# Altium schematic symbol library PAM8906M1018-13.SchLib: 1 symbol
Pins are listed as number, name and electrical type; pins without a type are passive.

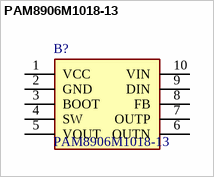
[diagram p0: symbol PAM8906M1018-13]

## PAM8906M1018-13
designator B?
Audio Amplifiers Audio Low Volt MSOP-10 T&R 2.5K; Manufacturer_Name: Diodes Incorporated; Geometry.Height: 1.1mm; Manufacturer_Part_Number: PAM8906M1018-13; Mouser Part Number: 621-PAM8906M1018-13; Mouser Price/Stock: https://www.mouser.co.uk/ProductDetail/Diodes-Incorporated/PAM8906M1018-13?qs=amGC7iS6iy89BpBhX%252BV0cg%3D%3D; Arrow Part Number: *; Arrow Price/Stock: *; Datasheet Link: https://www.diodes.com/assets/Datasheets/PAM8906.pdf
footprint SOP50P490X110-10N
pins: 1 VCC, 2 GND, 3 BOOT, 4 SW, 5 VOUT, 6 OUTN, 7 OUTP, 8 FB, 9 DIN, 10 VIN